# Altium schematic symbol library EMIFIL Cap.Schlib: 1 symbol
Pins are listed as number, name and electrical type; pins without a type are passive.

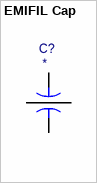
[diagram p0: symbol EMIFIL Cap]

## EMIFIL Cap
designator C?
Capacitor - EMIFIL
pins: 1 A, 2 G2, 2 G1, 3 B